# EAGLE library part 74*373 (library TABOR K1)
type transparent LATCH, edge triggered
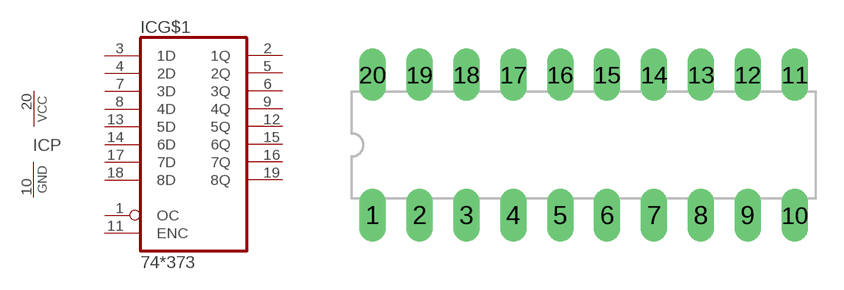
[diagram p44: symbol with the pads of DIL20; footprint DIL20]

Designator prefix IC; gates G$1=74373 P=PWR-GND-VCC

## 74373", 74ALS373", 74HC373", 74HCT373", 74LS373"  [DIL20]
1  G$1:OC  in
2  G$1:1Q  hiz
3  G$1:1D  in
4  G$1:2D  in
5  G$1:2Q  hiz
6  G$1:3Q  hiz
7  G$1:3D  in
8  G$1:4D  in
9  G$1:4Q  hiz
10  P:GND  pwr
11  G$1:ENC  in
12  G$1:5Q  hiz
13  G$1:5D  in
14  G$1:6D  in
15  G$1:6Q  hiz
16  G$1:7Q  hiz
17  G$1:7D  in
18  G$1:8D  in
19  G$1:8Q  hiz
20  P:VCC  pwr

## Footprint DIL20 (pad centres in mm)
Púzdro DIL20 : diera s pokovenim = 0,6 mm, vrtanie = 0,8mm
drill 0.813 pad 1.422 long: 1 -11.43,-3.81; 2 -8.89,-3.81; 3 -6.35,-3.81; 4 -3.81,-3.81; 5 -1.27,-3.81; 6 1.27,-3.81; 7 3.81,-3.81; 8 6.35,-3.81; 9 8.89,-3.81; 10 11.43,-3.81; 11 11.43,3.81; 12 8.89,3.81; 13 6.35,3.81; 14 3.81,3.81; 15 1.27,3.81; 16 -1.27,3.81; 17 -3.81,3.81; 18 -6.35,3.81; 19 -8.89,3.81; 20 -11.43,3.81